# Altium schematic symbol library Capacitor.SchLib: 5 symbols
Pins are listed as number, name and electrical type; pins without a type are passive.

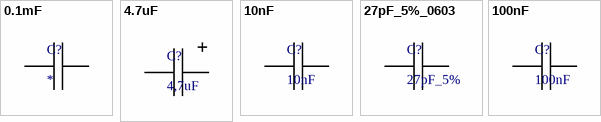
[diagram p0: symbols 0.1mF to 100nF]

## 0.1mF
designator C?
pins: 1, 2

## 4.7uF
designator C?, comment 4,7uF
pins: 1, 2

## 10nF
designator C?
pins: 1, 2

## 27pF_5%_0603
designator C?, comment 27pF_5%
pins: 1, 2

## 100nF
designator C?
pins: 1, 2